# Altium footprint library 912283001.PcbLib: 1 footprints
Each footprint in its own frame and in the unit in brackets; x right, y up, seen from the top. Pads: shape width x height; smd on the part's side, far side on the other; paste and mask are expansions set on the pad; w line width, h text height; cw(c..) or ccw(c..) is an arc to the next point about the centre after c.
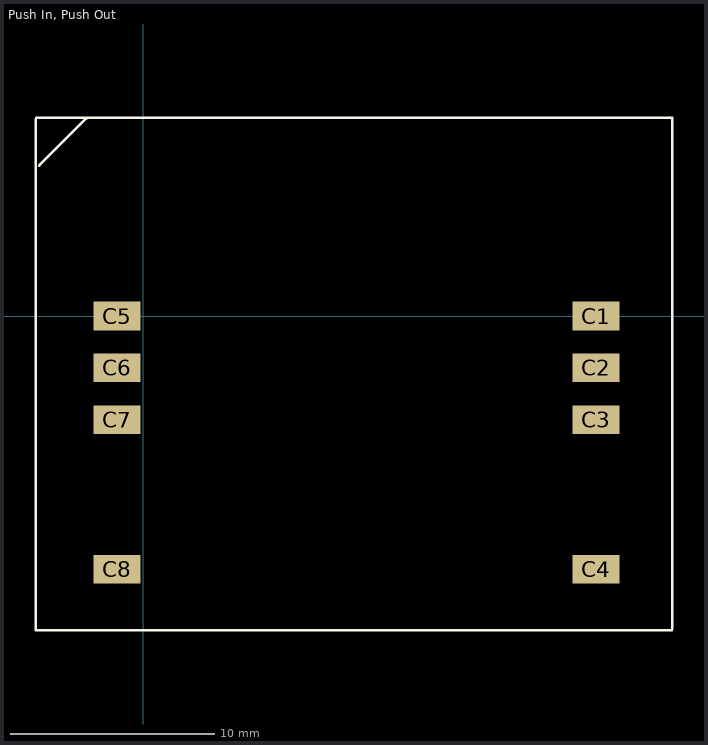
[diagram p0: the footprint, top view; thin cyan lines are the x and y axes]

## Push In, Push Out [mm] "CONN SIM CARD PUSH-PUSH R/A SMD"
pads (8):
  rect 2.3x1.4 smd paste-25.4 mask-25.4: C1(22.175,0) C2(22.175,-2.54) C3(22.175,-5.08) C4(22.175,-12.4) C5(-1.27,0) C6(-1.27,-2.54) C7(-1.27,-5.08) C8(-1.27,-12.4)
Top Overlay:
  lines w0.127: -5.25,9.625 -5.25,-15.375 25.875,-15.375 ; -5.225,9.7 25.9,9.7 25.9,-15.3 ; -5.09,7.36 -2.79,9.66
Top Paste:
  region: -2.42,-0.7 -0.12,-0.7 -0.12,0.7 -2.42,0.7
  region: -2.42,-3.24 -0.12,-3.24 -0.12,-1.84 -2.42,-1.84
  region: -2.42,-5.78 -0.12,-5.78 -0.12,-4.38 -2.42,-4.38
  region: -2.42,-13.1 -0.12,-13.1 -0.12,-11.7 -2.42,-11.7
  region: 21.025,-0.7 23.325,-0.7 23.325,0.7 21.025,0.7
  region: 21.025,-3.24 23.325,-3.24 23.325,-1.84 21.025,-1.84
  region: 21.025,-5.78 23.325,-5.78 23.325,-4.38 21.025,-4.38
  region: 21.025,-13.1 23.325,-13.1 23.325,-11.7 21.025,-11.7
Top Solder:
  region: -2.52,-0.8 -0.02,-0.8 -0.02,0.8 -2.52,0.8
  region: -2.52,-3.34 -0.02,-3.34 -0.02,-1.74 -2.52,-1.74
  region: -2.52,-5.88 -0.02,-5.88 -0.02,-4.28 -2.52,-4.28
  region: -2.52,-13.2 -0.02,-13.2 -0.02,-11.6 -2.52,-11.6
  region: 20.925,-0.8 23.425,-0.8 23.425,0.8 20.925,0.8
  region: 20.925,-3.34 23.425,-3.34 23.425,-1.74 20.925,-1.74
  region: 20.925,-5.88 23.425,-5.88 23.425,-4.28 20.925,-4.28
  region: 20.925,-13.2 23.425,-13.2 23.425,-11.6 20.925,-11.6